# Altium integrated library Renesas Microprocessor SuperH.IntLib: 433 symbols (part 19 of 62)
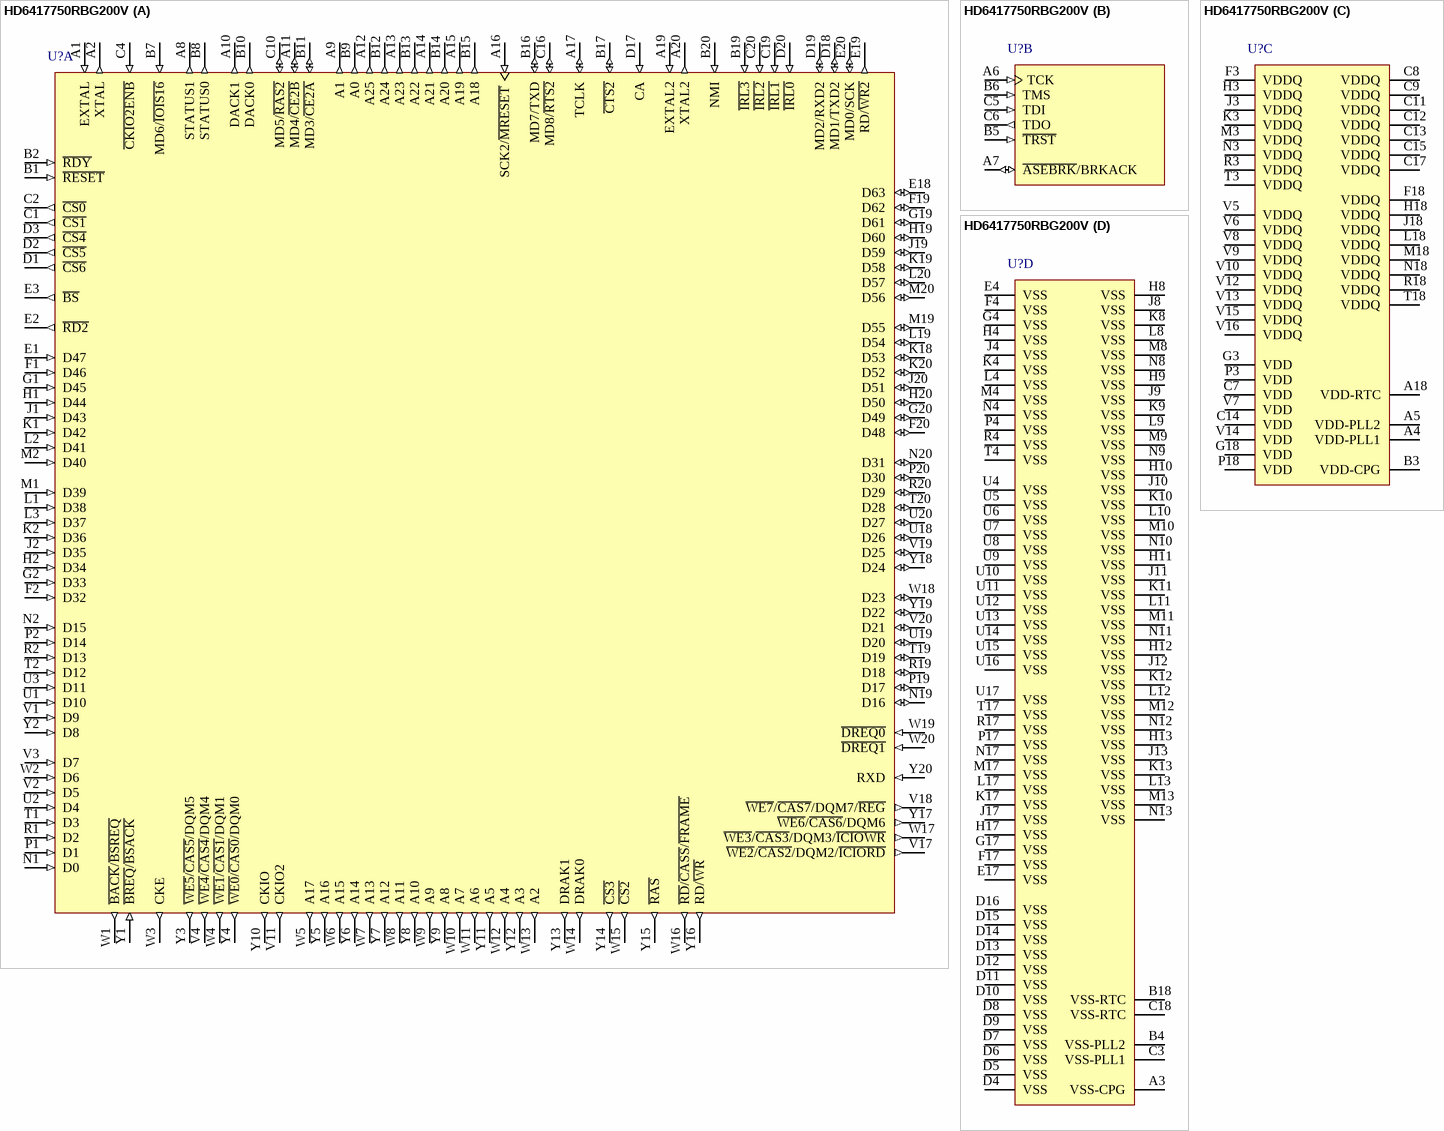
[diagram p392: symbol HD6417750RBG200V]

## HD6417750RBG200V
designator U?
32-Bit RISC Microcomputer, SH7750 Series, SH-4 core, 1.5V 200MHz, 292-pin BGA (Pb-Free), -20 to 75°C; Published: 28-Aug-2009; DatasheetVersion: Rev.7.00, Oct-2008; PackageVersion: Oct-2006; PackageReference: PRBG0292GA-A; Publisher: Altium Limited; PackageDescription: 292-Ball Plastic Fine Pitch Ball Grid Array, 17 x 17 mm Body, 0.8 mm Pitch; Code_JEITA: P-FBGA292-17x17-0.80; ComponentLink1Description: Manufacturer Link; ComponentLink1URL: http://www.renesas.com/fmwk.jsp?cnt=sh7750r_root.jsp&fp=/products/mpumcu/superh_family/sh7750_series/sh7750r_group/; ComponentLink2Description: Datasheet; ComponentLink2URL: http://documentation.renesas.com/eng/products/mpumcu/rej09b0366_7750hm.pdf; ComponentLink3Description: Packaging Specification; ComponentLink3URL: http://sg.renesas.com/media/products/common_info/package/pdf/ic/code/prbg0292ga_a.pdf
footprint PRBG0292GA-A (BGA, 292-Leads, Body 17x17mm, Pitch 0.8mm)
part A pins: A1 EXTAL (in) "External clock/crystal resonator", A2 XTAL (out) "Crystal resonator", A8 STATUS1 (out) "Status", A9 A1 (out) "Address", A10 DACK1 (out) "DMAC1 acknowledge", A11 MD4/~{CE2B} (io) "Mode/PCMCIA-CE", A12 A25 (out) "Address", A13 A23 (out) "Address", A14 A21 (out) "Address", A15 A19 (out) "Address", A16 SCK2/~{MRESET} (in) "SCIF clock/manual reset", A17 TCLK (io) "RTC/TMU clock", A19 EXTAL2 (in) "RTC crystal resonator pin", A20 XTAL2 (out) "RTC crystal resonator pin", B1 ~{RESET} (in) "Reset", B2 ~{RDY} (in) "Bus ready", B7 MD6/~{IOIS16} (in) "Mode/IOIS16 (PCMCIA)", B8 STATUS0 (out) "Status", B9 A0 (out) "Address", B10 DACK0 (out) "DMAC0 bus acknowledge", B11 MD3/~{CE2A} (io) "Mode/PCMCIA-CE", B12 A24 (out) "Address", B13 A22 (out) "Address", B14 A20 (out) "Address", B15 A18 (out) "Address", B16 MD7/TXD (io) "Mode/SCI1 data output", B17 ~{CTS2} (io) "SCIF data control (CTS)", B19 ~{IRL3} (in) "Interrupt 3", B20 NMI (in) "Nonmaskable interrupt", C1 ~{CS1} (out) "Chip select 1", C2 ~{CS0} (out) "Chip select 0", C4 ~{CKIO2ENB} (in) "CKIO2, RD2, RD/WR2enable", C10 MD5/~{RAS2} (io) "Mode/RAS (DRAM)", C16 MD8/~{RTS2} (io) "Mode/SCIF data control (RTS)", C19 ~{IRL1} (in) "Interrupt 1", C20 ~{IRL2} (in) "Interrupt 2", D1 ~{CS6} (out) "Chip select 6", D2 ~{CS5} (out) "Chip select 5", D3 ~{CS4} (out) "Chip select 4", D17 CA (in) "Hardware standby", D18 MD1/TXD2 (io) "Mode/SCIF data output", D19 MD2/RXD2 (io) "Mode/SCIF data input", D20 ~{IRL0} (in) "Interrupt 0", E1 D47 (in) "Data/port", E2 ~{RD2} (out) "RD/CASS/FRAME", E3 ~{BS} (out) "Bus start", E18 D63 (io) "Data", E19 RD/~{WR2} (out) "RD/WR", E20 MD0/SCK (io) "Mode/SCI Clock", F1 D46 (in) "Data/port", F2 D32 (in) "Data/port", F19 D62 (io) "Data", F20 D48 (io) "Data/port", G1 D45 (in) "Data/port", G2 D33 (in) "Data/port", G19 D61 (io) "Data", G20 D49 (io) "Data/port", H1 D44 (in) "Data/port", H2 D34 (in) "Data/port", H19 D60 (io) "Data", H20 D50 (io) "Data/port", J1 D43 (in) "Data/port", J2 D35 (in) "Data/port", J19 D59 (io) "Data", J20 D51 (io) "Data/port", K1 D42 (in) "Data/port", K2 D36 (in) "Data/port", K18 D53 (io) "Data", K19 D58 (io) "Data", K20 D52 (io) "Data", L1 D38 (in) "Data/port", L2 D41 (in) "Data/port", L3 D37 (in) "Data/port", L19 D54 (io) "Data", L20 D57 (io) "Data", M1 D39 (in) "Data/port", M2 D40 (in) "Data/port", M19 D55 (io) "Data", M20 D56 (io) "Data", N1 D0 (in) "Data", N2 D15 (in) "Data", N19 D16 (io) "Data", N20 D31 (io) "Data", P1 D1 (in) "Data", P2 D14 (in) "Data", P19 D17 (io) "Data", P20 D30 (io) "Data", R1 D2 (in) "Data", R2 D13 (in) "Data", R19 D18 (io) "Data", R20 D29 (io) "Data", T1 D3 (in) "Data", T2 D12 (in) "Data", T19 D19 (io) "Data", T20 D28 (io) "Data", U1 D10 (in) "Data", U2 D4 (in) "Data", U3 D11 (in) "Data", U18 D26 (io) "Data", U19 D20 (io) "Data", U20 D27 (io) "Data", V1 D9 (in) "Data", V2 D5 (in) "Data", V3 D7 (in) "Data", V4 ~{WE4}/~{CAS4}/DQM4 (out) "D39-D32 select signal", V11 CKIO2 (out) "CKIO", V17 ~{WE2}/~{CAS2}/DQM2/~{ICIORD} (out) "D23-D16 select signal", V18 ~{WE7}/~{CAS7}/DQM7/~{REG} (out) "D63-D56 select signal", V19 D25 (io) "Data", V20 D21 (io) "Data", W1 ~{BACK}/~{BSREQ} (out) "Bus acknowledge/bus request", W2 D6 (in) "Data", W3 CKE (out) "Clock output enable", W4 ~{WE1}/~{CAS1}/DQM1 (out) "D15-D8 select signal", W5 A17 (out) "Address", W6 A15 (out) "Address", W7 A13 (out) "Address", W8 A11 (out) "Address", W9 A9 (out) "Address", W10 A7 (out) "Address", W11 A6 (out) "Address", W12 A4 (out) "Address", W13 A2 (out) "Address", W14 DRAK0 (out) "DMAC0 request acknowledge", W15 ~{CS2} (out) "Chip select 2", W16 ~{RD}/~{CASS}/~{FRAME} (out) "Read/CAS/FRAME", W17 ~{WE3}/~{CAS3}/DQM3/~{ICIOWR} (out) "D31-D24 select signal", W18 D23 (io) "Data", W19 ~{DREQ0} (in) "Request from DMAC0", W20 ~{DREQ1} (in) "Request from DMAC1", Y1 ~{BREQ}/~{BSACK} (in) "Bus request/bus acknowledge", Y2 D8 (in) "Data", Y3 ~{WE5}/~{CAS5}/DQM5 (out) "D47-D40 select signal", Y4 ~{WE0}/~{CAS0}/DQM0 (out) "D7-D0 select signal", Y5 A16 (out) "Address", Y6 A14 (out) "Address", Y7 A12 (out) "Address", Y8 A10 (out) "Address", Y9 A8 (out) "Address", Y10 CKIO (out) "Clock output", Y11 A5 (out) "Address", Y12 A3 (out) "Address", Y13 DRAK1 (out) "DMAC1 request acknowledge", Y14 ~{CS3} (out) "Chip select 3", Y15 ~{RAS} (out) "RAS", Y16 RD/~{WR} (out) "Read/write", Y17 ~{WE6}/~{CAS6}/DQM6 (out) "D55-D48 select signal", Y18 D24 (io) "Data", Y19 D22 (io) "Data", Y20 RXD (in) "SCI data input"
part B pins: A6 TCK (in) "Clock (H-UDI)", A7 ~{ASEBRK}/BRKACK (io) "Pin break/acknowledge (H-UDI)", B5 ~{TRST} (in) "Reset (H-UDI)", B6 TMS (in) "Mode (H-UDI)", C5 TDI (in) "Data in (H-UDI)", C6 TDO (out) "Data out (H-UDI)"
part C pins: A4 VDD-PLL1 (power) "PLL1 VDD (3.3V)", A5 VDD-PLL2 (power) "PLL2 VDD (3.3V)", A18 VDD-RTC (power) "RTC VDD (3.3V)", B3 VDD-CPG (power) "CPG VDD (3.3V)", C7 VDD (power) "Internal VDD", C8 VDDQ (power) "IO VDD (3.3V)", C9 VDDQ (power) "IO VDD (3.3V)", C11 VDDQ (power) "IO VDD (3.3V)", C12 VDDQ (power) "IO VDD (3.3V)", C13 VDDQ (power) "IO VDD (3.3V)", C14 VDD (power) "Internal VDD", C15 VDDQ (power) "IO VDD (3.3V)", C17 VDDQ (power) "IO VDD (3.3V)", F3 VDDQ (power) "IO VDD (3.3V)", F18 VDDQ (power) "IO VDD (3.3V)", G3 VDD (power) "Internal VDD", G18 VDD (power) "Internal VDD", H3 VDDQ (power) "IO VDD (3.3V)", H18 VDDQ (power) "IO VDD (3.3V)", J3 VDDQ (power) "IO VDD (3.3V)", J18 VDDQ (power) "IO VDD (3.3V)", K3 VDDQ (power) "IO VDD (3.3V)", L18 VDDQ (power) "IO VDD (3.3V)", M3 VDDQ (power) "IO VDD (3.3V)", M18 VDDQ (power) "IO VDD (3.3V)", N3 VDDQ (power) "IO VDD (3.3V)", N18 VDDQ (power) "IO VDD (3.3V)", P3 VDD (power) "Internal VDD", P18 VDD (power) "Internal VDD", R3 VDDQ (power) "IO VDD (3.3V)", R18 VDDQ (power) "IO VDD (3.3V)", T3 VDDQ (power) "IO VDD (3.3V)", T18 VDDQ (power) "IO VDD (3.3V)", V5 VDDQ (power) "IO VDD (3.3V)", V6 VDDQ (power) "IO VDD (3.3V)", V7 VDD (power) "Internal VDD", V8 VDDQ (power) "IO VDD (3.3V)", V9 VDDQ (power) "IO VDD (3.3V)", V10 VDDQ (power) "IO VDD (3.3V)", V12 VDDQ (power) "IO VDD (3.3V)", V13 VDDQ (power) "IO VDD (3.3V)", V14 VDD (power) "Internal VDD", V15 VDDQ (power) "IO VDD (3.3V)", V16 VDDQ (power) "IO VDD (3.3V)"
part D pins: A3 VSS-CPG (power) "CPG GND (0V)", B4 VSS-PLL2 (power) "PLL2 GND (0V)", B18 VSS-RTC (power) "RTC GND (0V)", C3 VSS-PLL1 (power) "PLL1 GND (0V)", C18 VSS-RTC (power) "RTC GND (0V)", D4 VSS (power) "GND (0V)", D5 VSS (power) "GND (0V)", D6 VSS (power) "GND (0V)", D7 VSS (power) "GND (0V)", D8 VSS (power) "GND (0V)", D9 VSS (power) "GND (0V)", D10 VSS (power) "GND (0V)", D11 VSS (power) "GND (0V)", D12 VSS (power) "GND (0V)", D13 VSS (power) "GND (0V)", D14 VSS (power) "GND (0V)", D15 VSS (power) "GND (0V)", D16 VSS (power) "GND (0V)", E4 VSS (power) "GND (0V)", E17 VSS (power) "GND (0V)", F4 VSS (power) "GND (0V)", F17 VSS (power) "GND (0V)", G4 VSS (power) "GND (0V)", G17 VSS (power) "GND (0V)", H4 VSS (power) "GND (0V)", H8 VSS (power) "GND (0V)", H9 VSS (power) "GND (0V)", H10 VSS (power) "GND (0V)", H11 VSS (power) "GND (0V)", H12 VSS (power) "GND (0V)", H13 VSS (power) "GND (0V)", H17 VSS (power) "GND (0V)", J4 VSS (power) "GND (0V)", J8 VSS (power) "GND (0V)", J9 VSS (power) "GND (0V)", J10 VSS (power) "GND (0V)", J11 VSS (power) "GND (0V)", J12 VSS (power) "GND (0V)", J13 VSS (power) "GND (0V)", J17 VSS (power) "GND (0V)", K4 VSS (power) "GND (0V)", K8 VSS (power) "GND (0V)", K9 VSS (power) "GND (0V)", K10 VSS (power) "GND (0V)", K11 VSS (power) "GND (0V)", K12 VSS (power) "GND (0V)", K13 VSS (power) "GND (0V)", K17 VSS (power) "GND (0V)", L4 VSS (power) "GND (0V)", L8 VSS (power) "GND (0V)", L9 VSS (power) "GND (0V)", L10 VSS (power) "GND (0V)", L11 VSS (power) "GND (0V)", L12 VSS (power) "GND (0V)", L13 VSS (power) "GND (0V)", L17 VSS (power) "GND (0V)", M4 VSS (power) "GND (0V)", M8 VSS (power) "GND (0V)", M9 VSS (power) "GND (0V)", M10 VSS (power) "GND (0V)", M11 VSS (power) "GND (0V)", M12 VSS (power) "GND (0V)", M13 VSS (power) "GND (0V)", M17 VSS (power) "GND (0V)", N4 VSS (power) "GND (0V)", N8 VSS (power) "GND (0V)", N9 VSS (power) "GND (0V)", N10 VSS (power) "GND (0V)", N11 VSS (power) "GND (0V)", N12 VSS (power) "GND (0V)", N13 VSS (power) "GND (0V)", N17 VSS (power) "GND (0V)", P4 VSS (power) "GND (0V)", P17 VSS (power) "GND (0V)", R4 VSS (power) "GND (0V)", R17 VSS (power) "GND (0V)", T4 VSS (power) "GND (0V)", T17 VSS (power) "GND (0V)", U4 VSS (power) "GND (0V)", U5 VSS (power) "GND (0V)", U6 VSS (power) "GND (0V)", U7 VSS (power) "GND (0V)", U8 VSS (power) "GND (0V)", U9 VSS (power) "GND (0V)", U10 VSS (power) "GND (0V)", U11 VSS (power) "GND (0V)", U12 VSS (power) "GND (0V)", U13 VSS (power) "GND (0V)", U14 VSS (power) "GND (0V)", U15 VSS (power) "GND (0V)", U16 VSS (power) "GND (0V)", U17 VSS (power) "GND (0V)"

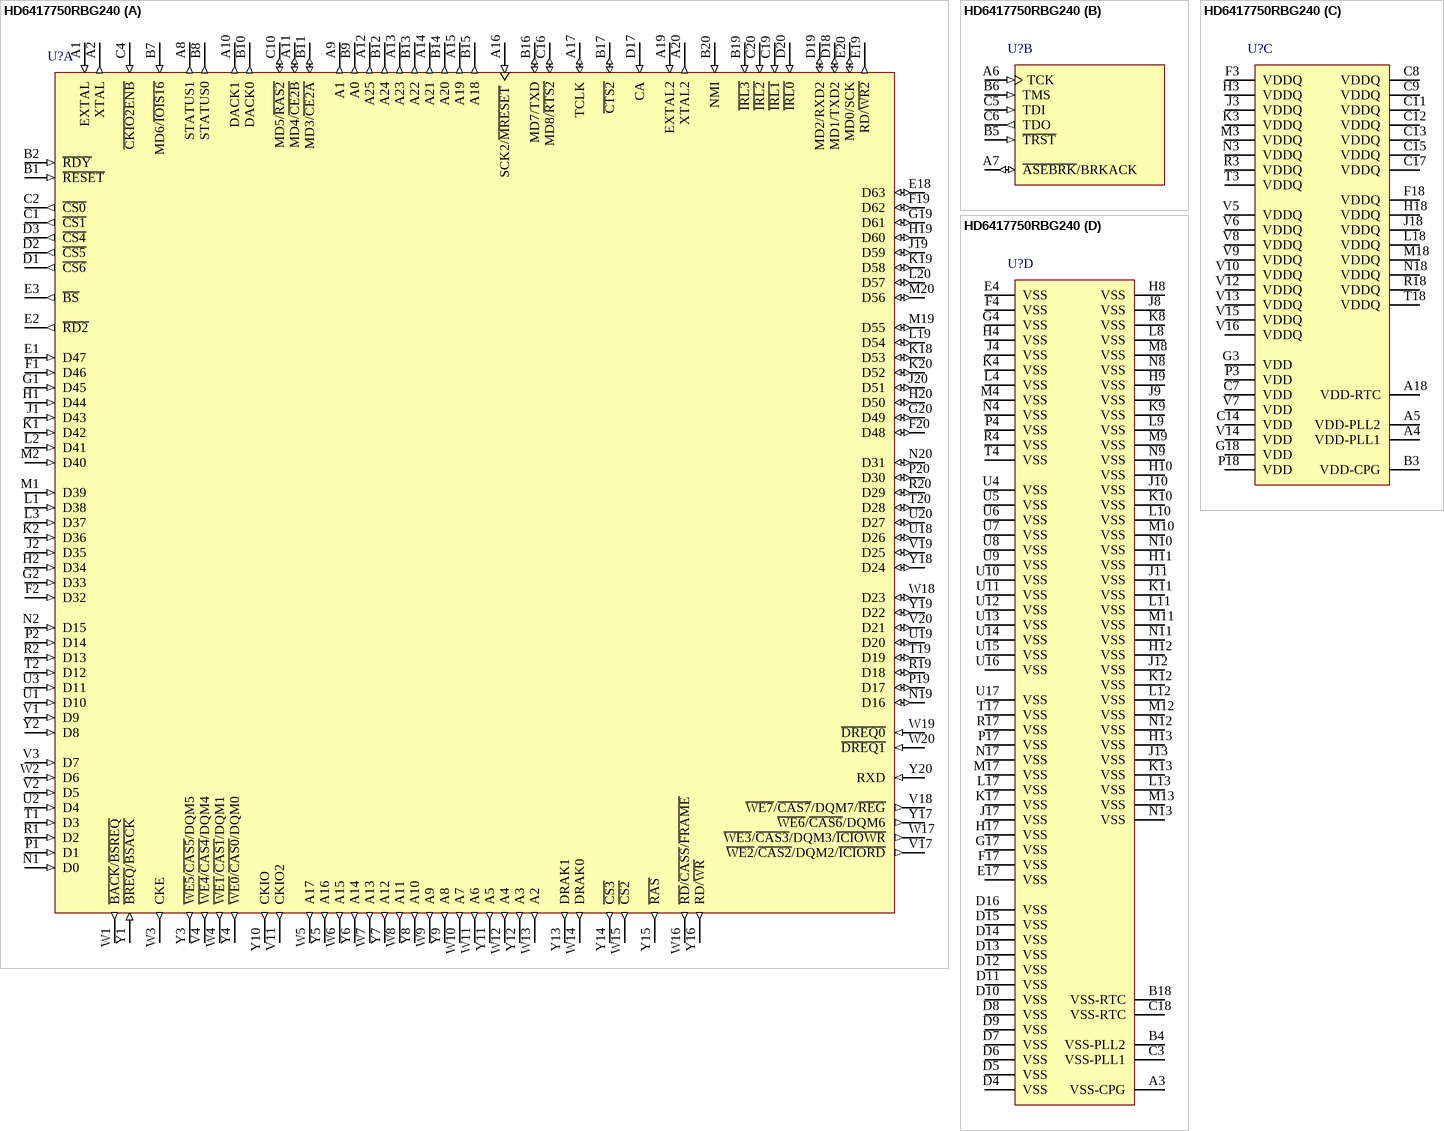
[diagram p66: symbol HD6417750RBG240]